# Altium footprint library TeknoFest.PcbLib: 9 footprints
Each footprint in its own frame and in the unit in brackets; x right, y up, seen from the top. Pads: shape width x height; smd on the part's side, far side on the other; paste and mask are expansions set on the pad; w line width, h text height; cw(c..) or ccw(c..) is an arc to the next point about the centre after c.
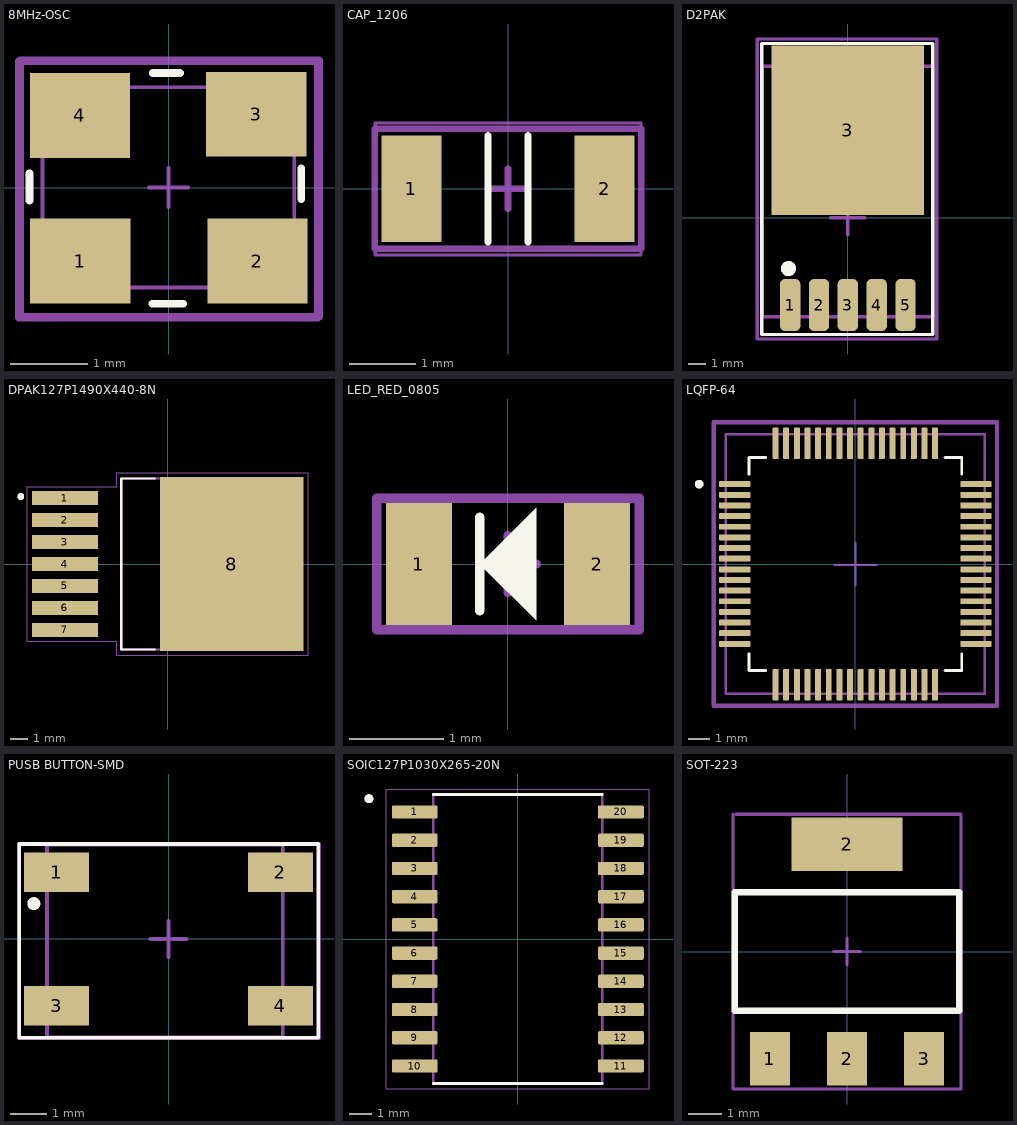
[diagram p0: the footprints below, top view; thin cyan lines are the x and y axes]

## 8MHz-OSC [mm]
pads (4):
  rect 1.3x1.1 smd mask+0.05: 1(-1.148,-0.954) 2(1.152,-0.954) 3(1.137,0.954) 4(-1.152,0.937)
Top Overlay:
  circle w0.254: c-1.548,-1.232 r0.1
  lines w0.1: -1.805,-0.166 -1.805,0.188 ; -0.212,-1.509 0.188,-1.509 ; -0.207,1.487 0.147,1.487 ; 1.723,-0.147 1.723,0.253
Top 3D Body:
  lines w0.05: -1.638,-1.296 -1.638,1.302 1.63,1.302 1.63,-1.296 -1.638,-1.296
Top Component Center:
  lines w0.05: -0.254,0 0.254,0 ; 0,-0.254 0,0.254
  lines w0.1: -1.943,-1.684 -1.943,1.639 1.937,1.639 1.937,-1.684 -1.943,-1.684
Top  Designator:
  lines w0.1: -1.928,-1.675 1.951,-1.675 1.951,1.649 -1.928,1.649 -1.928,-1.675
  text ".Designator" at -0.612,-0.218 h0.8
3D body "ASE3.STEP": height 1.22, standoff -0.03, extent -1.6,-1.25 1.6,1.25

## CAP_1206 [mm]
pads (2):
  rect 0.9x1.6 smd mask+0.05: 1(-1.45,0) 2(1.45,0)
Top Overlay:
  lines w0.1: -0.3,-0.8 -0.3,0.8 ; 0.3,-0.8 0.3,0.8
Top 3D Body:
  lines w0.05: -1.991,-0.994 1.996,-0.994 1.996,0.987 -1.991,0.987 -1.991,-0.994
Top Component Center:
  lines w0.1: -0.3,0 0.3,0 ; 0,-0.3 0,0.3 ; -2,-0.9 -2,0.9 2,0.9 2,-0.9 -2,-0.9
Top  Designator:
  lines w0.1: -2,-0.9 -2,0.9 2,0.9 2,-0.9 -2,-0.9
  text "'.Designator'" at -1.25,-0.317 h0.7
3D body "CAPC1206.STEP": height 1.3, standoff -0.01, extent -1.975,-0.976 1.975,0.976

## D2PAK [mm]
pads (6):
  rrect50% 1.2x3.075 smd mask+0.05: 1(-3.404,-5.15) 2(-1.702,-5.15) 3(0,-5.15) 4(1.702,-5.15) 5(3.404,-5.15)
  rect 9x10 smd mask+0.05: 3(0,5.15)
Top Overlay:
  circle w0.5: c-3.5,-3 r0.2
  lines w0.2: -5.071,-6.887 -5.071,8.263 -5.071,10.282 5,10.282 5,-6.887 -5.071,-6.887
Top 3D Body:
  lines w0.2: -5.047,8.941 -5.047,-5.831 5,-5.831 5,8.941 -4.941,8.941
Top Component Center:
  lines w0.2: -1,0 1,0 ; 0,-1 0,1 ; -5.353,-7.152 5.251,-7.152 5.251,10.545 -5.353,10.545 -5.353,-7.152
Top  Designator:
  lines w0.2: -5.353,-7.152 5.251,-7.152 5.251,10.545 -5.353,10.545 -5.353,-7.152
  text ".Designator" at -2.1,1.066 h2
3D body "TO263-5-1.stp": height 4.22, standoff 0, extent -4.922,-5.751 4.9,8.851

## DPAK127P1490X440-8N [mm]
pads (8):
  rect 3.81x0.8 smd: 1(-5.95,3.81) 2(-5.95,2.54) 3(-5.95,1.27) 4(-5.95,0) 5(-5.95,-1.27) 6(-5.95,-2.54) 7(-5.95,-3.81)
  rect 8.29x10.07 smd paste-4.36: 8(3.71,0)
Top Overlay:
  circle w0.2: c-8.5,3.9 r0.1
  lines w0.127: -0.749,-4.95 -2.69,-4.95 -2.69,4.95 -0.749,4.95
Top Paste:
  region: 4.535,1.345 2.885,1.345 2.885,2.695 4.535,2.695
  region: 4.535,3.365 2.885,3.365 2.885,4.715 4.535,4.715
  region: 4.535,-2.695 2.885,-2.695 2.885,-1.345 4.535,-1.345
  region: 4.535,-4.715 2.885,-4.715 2.885,-3.365 4.535,-3.365
  region: 7.295,3.365 5.645,3.365 5.645,4.715 7.295,4.715
  region: 7.295,1.345 5.645,1.345 5.645,2.695 7.295,2.695
  region: 7.295,-0.675 5.645,-0.675 5.645,0.675 7.295,0.675
  region: 7.295,-2.695 5.645,-2.695 5.645,-1.345 7.295,-1.345
  region: 7.295,-4.715 5.645,-4.715 5.645,-3.365 7.295,-3.365
  region: 1.775,-4.715 0.125,-4.715 0.125,-3.365 1.775,-3.365
  region: 1.775,-2.695 0.125,-2.695 0.125,-1.345 1.775,-1.345
  region: 1.775,-0.675 0.125,-0.675 0.125,0.675 1.775,0.675
  region: 1.775,1.345 0.125,1.345 0.125,2.695 1.775,2.695
  region: 1.775,3.365 0.125,3.365 0.125,4.715 1.775,4.715
Mechanical 13:
  circle w0.2: c-8.5,3.9 r0.1
  lines w0.127: -2.69,-4.95 6.71,-4.95 6.71,4.95 -2.69,4.95 -2.69,-4.95
Mechanical 15:
  lines w0.05: -8.11,-4.46 -2.94,-4.46 -2.94,-5.29 8.11,-5.29 8.11,5.29 -2.94,5.29 -2.94,4.46 -8.11,4.46 -8.11,-4.46
3D body "step_temp.STEP": height 4.4, standoff 0, extent -7.45,-4.95 7.45,4.95

## LED_RED_0805 [mm]
pads (2):
  rect 0.7x1.3 smd mask+0.05: 1(-0.95,0) 2(0.95,0)
Top Overlay:
  region: -0.3,0 0.3,0.6 0.3,-0.6
  lines w0.1: -0.3,-0.5 -0.3,0.5
Top Component Center:
  lines w0.1: -0.3,0 0.3,0 ; 0,-0.3 0,0.3 ; -1.4,-0.7 -1.4,0.7 1.4,0.7 1.4,-0.7 -1.4,-0.7
Top  Designator:
  lines w0.1: -1.4,-0.7 -1.4,0.7 1.4,0.7 1.4,-0.7 -1.4,-0.7
  text "'.Designator'" at -1.25,-0.317 h0.7
3D body "SMD_0805LED_RED.STEP": height 1.1, standoff 0, extent -1.01,-0.625 1.01,0.625

## LQFP-64 [mm]
height 1.6
pads (64):
  rrect25% 1.47x0.28 smd: 1(-5.67,3.75) 2(-5.67,3.25) 3(-5.67,2.75) 4(-5.67,2.25) 5(-5.67,1.75) 6(-5.67,1.25) 7(-5.67,0.75) 8(-5.67,0.25) 9(-5.67,-0.25) 10(-5.67,-0.75) 11(-5.67,-1.25) 12(-5.67,-1.75) 13(-5.67,-2.25) 14(-5.67,-2.75) 15(-5.67,-3.25) 16(-5.67,-3.75) 33(5.67,-3.75) 34(5.67,-3.25) 35(5.67,-2.75) 36(5.67,-2.25) 37(5.67,-1.75) 38(5.67,-1.25) 39(5.67,-0.75) 40(5.67,-0.25) 41(5.67,0.25) 42(5.67,0.75) 43(5.67,1.25) 44(5.67,1.75) 45(5.67,2.25) 46(5.67,2.75) 47(5.67,3.25) 48(5.67,3.75)
  rrect25% 0.28x1.47 smd: 17(-3.75,-5.67) 18(-3.25,-5.67) 19(-2.75,-5.67) 20(-2.25,-5.67) 21(-1.75,-5.67) 22(-1.25,-5.67) 23(-0.75,-5.67) 24(-0.25,-5.67) 25(0.25,-5.67) 26(0.75,-5.67) 27(1.25,-5.67) 28(1.75,-5.67) 29(2.25,-5.67) 30(2.75,-5.67) 31(3.25,-5.67) 32(3.75,-5.67) 49(3.75,5.67) 50(3.25,5.67) 51(2.75,5.67) 52(2.25,5.67) 53(1.75,5.67) 54(1.25,5.67) 55(0.75,5.67) 56(0.25,5.67) 57(-0.25,5.67) 58(-0.75,5.67) 59(-1.25,5.67) 60(-1.75,5.67) 61(-2.25,5.67) 62(-2.75,5.67) 63(-3.25,5.67) 64(-3.75,5.67)
Top Overlay:
  circle w0.2: c-7.34,3.75 r0.1
  lines w0.127: -5,-4.21 -5,-5 -4.21,-5 ; -5,4.21 -5,5 -4.21,5 ; 4.21,-5 5,-5 5,-4.21 ; 4.21,5 5,5 5,4.21
Top 3D Body:
  circle w0.2: c-7.34,3.75 r0.1
  lines w0.127: -6.085,-6.096 6.08,-6.096 6.08,6.091 -6.085,6.091 -6.085,-6.096
Top Component Center:
  lines w0.1: -0.981,-0.051 1.019,-0.051 ; 0,-1 0,1
  lines w0.2: -6.655,-6.655 -6.655,6.655 6.655,6.655 6.655,-6.655 -6.655,-6.655
3D body "STM32 LQFP64.step": height 1.6, standoff 0, extent -6,-6 6,6

## PUSB BUTTON-SMD [mm]
pads (4):
  rect 1.8x1.1 smd mask+0.05: 1(-3.1,1.85) 2(3.1,1.85) 3(-3.1,-1.85) 4(3.1,-1.85)
Top Overlay:
  circle w0.2: c-3.734,0.979 r0.08
  lines w0.1: -4.136,-2.736 -4.136,2.633 4.153,2.633 4.153,-2.736 -4.136,-2.736
Top 3D Body:
  lines w0.1: -3.369,-2.72 3.167,-2.72 3.167,2.608 -3.369,2.608 -3.369,-2.72
Top Component Center:
  lines w0.1: -0.5,0 0.5,0 ; 0,-0.5 0,0.5 ; -4.144,-2.751 4.169,-2.751 4.169,2.633 -4.144,2.633 -4.144,-2.751
Top  Designator:
  lines w0.1: -4.144,-2.751 -4.144,2.633 4.169,2.633 4.169,-2.751 -4.144,-2.751
  text ".Designator" at -1.8,-0.433 h1.1
3D body "User Library-4x4_SMD_Switch.step": height 1.5, standoff 0, extent -3.3,-2.65 3.1,2.55

## SOIC127P1030X265-20N [mm]
pads (20):
  rrect25% 2.06x0.6 smd: 1(-4.64,5.715) 2(-4.64,4.445) 3(-4.64,3.175) 4(-4.64,1.905) 5(-4.64,0.635) 6(-4.64,-0.635) 7(-4.64,-1.905) 8(-4.64,-3.175) 9(-4.64,-4.445) 10(-4.64,-5.715) 11(4.64,-5.715) 12(4.64,-4.445) 13(4.64,-3.175) 14(4.64,-1.905) 15(4.64,-0.635) 16(4.64,0.635) 17(4.64,1.905) 18(4.64,3.175) 19(4.64,4.445) 20(4.64,5.715)
Top Overlay:
  circle w0.2: c-6.7,6.315 r0.1
  lines w0.127: -3.8,-6.5 3.8,-6.5 ; -3.8,6.5 3.8,6.5
Mechanical 13:
  circle w0.2: c-6.7,6.315 r0.1
  lines w0.127: -3.8,-6.5 3.8,-6.5 3.8,6.5 -3.8,6.5 -3.8,-6.5
Mechanical 15:
  lines w0.05: -5.92,-6.75 5.92,-6.75 5.92,6.75 -5.92,6.75 -5.92,-6.75
3D body "SN74AHC244DW.STEP": height 2.65, standoff 0, extent -5.15,-6.4 5.15,6.4

## SOT-223 [mm]
pads (4):
  rect 1.2x1.6 smd mask+0.05: 1(-2.3,-3.2) 2(0,-3.2) 3(2.3,-3.2)
  rect 3.3x1.6 smd mask+0.05: 2(0,3.2)
Top Overlay:
  lines w0.2: -3.351,-1.768 -3.351,1.768 3.351,1.768 3.351,-1.768 -3.351,-1.768
Top Component Center:
  lines w0.1: -3.4,4.1 -3.4,-4.1 3.4,-4.1 3.4,4.1 -3.3,4.1 ; -0.4,0 0.4,0 ; 0,-0.4 0,0.4
Top  Designator:
  lines w0.1: -3.4,4.1 -3.4,-4.1 3.4,-4.1 3.4,4.1 -3.3,4.1
  text ".Designator" at -2,-0.5 h1.2
3D body "CircuitWorks-SOT-223.step": height 1.68, standoff 0, extent -3.25,-3.48 3.25,3.48